# Altium integrated library Analog Devices Operational Amplifiers.IntLib: 2102 symbols (part 66 of 70)
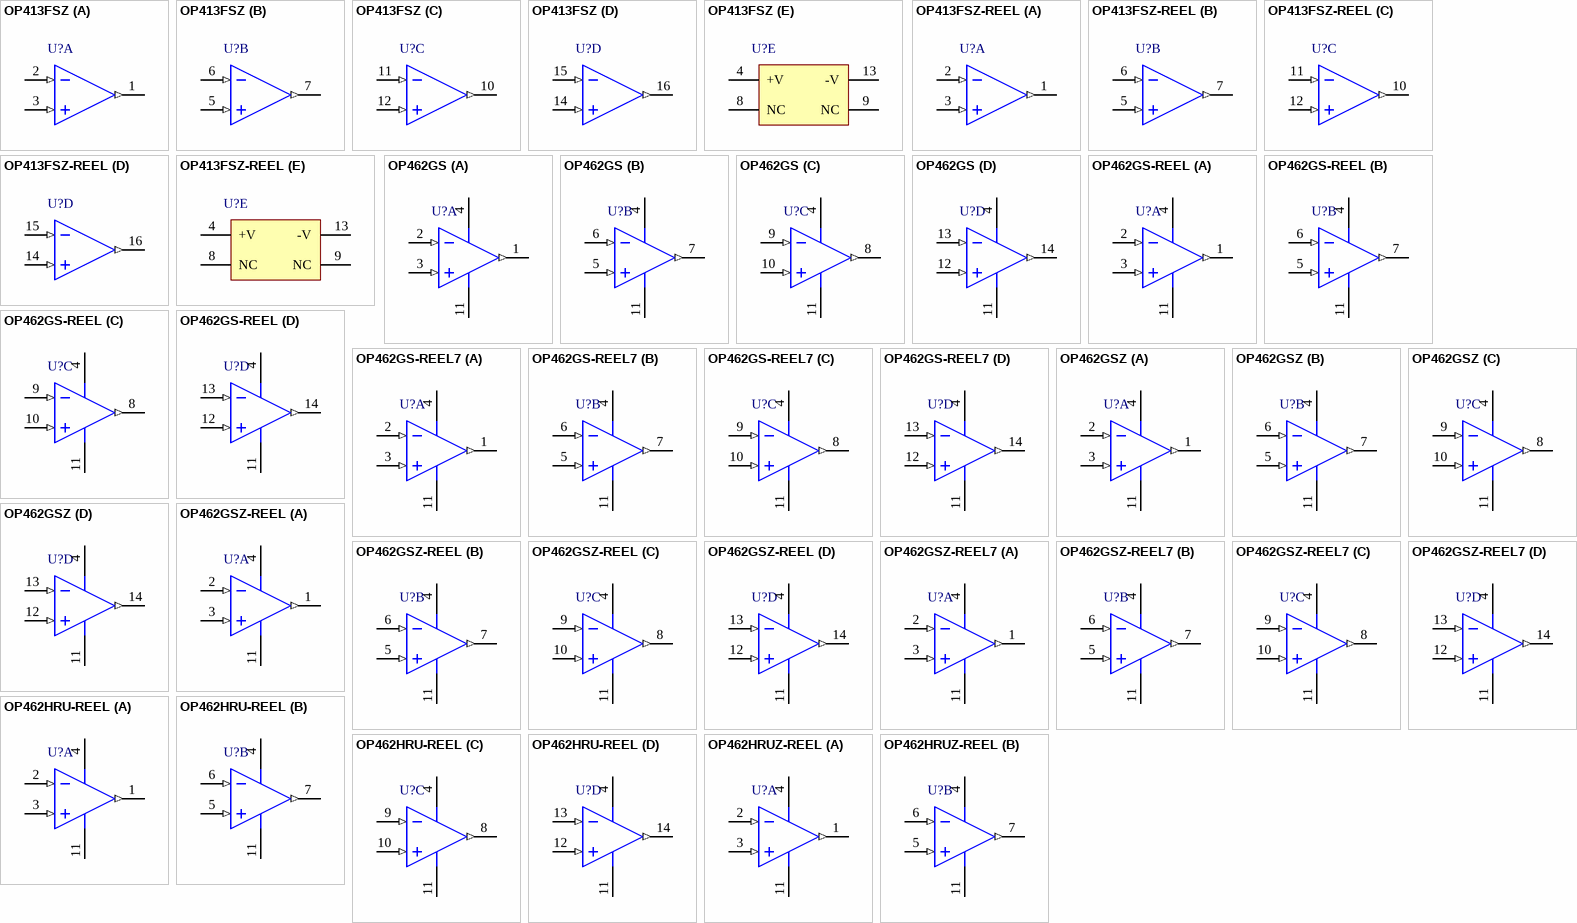
[diagram p179: symbols OP413FSZ to OP462HRUZ-REEL]

## OP462GS-REEL7
designator U?
Quad Channel Rail-to-Rail Operational Amplifier, 15 MHz BW, 13 V/us SR, Industrial, 14-pin SOIC (R-14), Reel; Generic Part Number: OP462; Manufacturer: Analog Devices; PartNumber: OP462GS-REEL7; Amplifiers Per Package: 4; Input Bias Current: 260nA; Input Offset Voltage: 25uV; Iq/Amp: 775uA; Slew Rate: 13V/us; Small Signal Bandwidth: 15MHz; V Span Max: 12V; V Span Min: 2.7V; DatasheetVersion: Rev. G; PackageVersion: 060606-A; PackageReference: R-14; PackageDescription: 14-Pin Standard Small Outline Package, Body 8.65 x 3.9 mm, Pitch 1.27 mm; Supplier 1: Digi-Key; Supplier Part Number 1: OP462GS-REEL7-ND; Mounting Technology: Surface Mount; Code_JEDEC: MS-012-AB; ComponentLink1Description: Manufacturer URL; ComponentLink1URL: http://www.analog.com/en/index.html; ComponentLink2Description: Datasheet; ComponentLink2URL: http://www.analog.com/static/imported-files/data_sheets/OP162_262_462.pdf; ComponentLink3Description: Package Specification; ComponentLink3URL: http://www.analog.com/static/imported-files/packages/PKG_PDF/SOIC_Narrow%20(R)/R_14.pdf
footprint ADI-R-14_N (SOIC, 14-Leads, Body 8.65x3.9mm, Pitch 1.27mm, IPC Medium Density)
footprint ADI-R-14_L (SOIC, 14-Leads, Body 8.65x3.9mm, Pitch 1.27mm, IPC High Density)
footprint ADI-R-14_M (SOIC, 14-Leads, Body 8.65x3.9mm, Pitch 1.27mm, IPC Low Density)
pins on every part: 4 +V (power), 11 -V (power)
part A pins: 1 OUT A (out), 2 -IN A (in), 3 +IN A (in)
part B pins: 5 +IN B (in), 6 -IN B (in), 7 OUT B (out)
part C pins: 8 OUT C (out), 9 -IN C (in), 10 +IN C (in)
part D pins: 12 +IN D (in), 13 -IN D (in), 14 OUT D (out)

## OP462GSZ
designator U?
Quad Channel Rail-to-Rail Operational Amplifier, 15 MHz BW, 13 V/us SR, Industrial, 14-pin SOIC (R-14), Tube; Generic Part Number: OP462; Manufacturer: Analog Devices; PartNumber: OP462GSZ; Amplifiers Per Package: 4; Input Bias Current: 260nA; Input Offset Voltage: 25uV; Iq/Amp: 775uA; Slew Rate: 13V/us; Small Signal Bandwidth: 15MHz; V Span Max: 12V; V Span Min: 2.7V; DatasheetVersion: Rev. G; PackageVersion: 060606-A; PackageReference: R-14; PackageDescription: 14-Pin Standard Small Outline Package, Body 8.65 x 3.9 mm, Pitch 1.27 mm; Supplier 1: Digi-Key; Supplier Part Number 1: OP462GSZ-ND; Supplier 2: Farnell; Supplier Part Number 2: 1661005; Supplier 3: Newark; Supplier Part Number 3: 19M8987; Mounting Technology: Surface Mount; Code_JEDEC: MS-012-AB; ComponentLink1Description: Manufacturer URL; ComponentLink1URL: http://www.analog.com/en/index.html; ComponentLink2Description: Datasheet; ComponentLink2URL: http://www.analog.com/static/imported-files/data_sheets/OP162_262_462.pdf; ComponentLink3Description: Package Specification; ComponentLink3URL: http://www.analog.com/static/imported-files/packages/PKG_PDF/SOIC_Narrow%20(R)/R_14.pdf
footprint ADI-R-14_N (SOIC, 14-Leads, Body 8.65x3.9mm, Pitch 1.27mm, IPC Medium Density)
footprint ADI-R-14_L (SOIC, 14-Leads, Body 8.65x3.9mm, Pitch 1.27mm, IPC High Density)
footprint ADI-R-14_M (SOIC, 14-Leads, Body 8.65x3.9mm, Pitch 1.27mm, IPC Low Density)
pins on every part: 4 +V (power), 11 -V (power)
part A pins: 1 OUT A (out), 2 -IN A (in), 3 +IN A (in)
part B pins: 5 +IN B (in), 6 -IN B (in), 7 OUT B (out)
part C pins: 8 OUT C (out), 9 -IN C (in), 10 +IN C (in)
part D pins: 12 +IN D (in), 13 -IN D (in), 14 OUT D (out)

## OP462GSZ-REEL
designator U?
Quad Channel Rail-to-Rail Operational Amplifier, 15 MHz BW, 13 V/us SR, Industrial, 14-pin SOIC (R-14), Reel; Generic Part Number: OP462; Manufacturer: Analog Devices; PartNumber: OP462GSZ-REEL; Amplifiers Per Package: 4; Input Bias Current: 260nA; Input Offset Voltage: 25uV; Iq/Amp: 775uA; Slew Rate: 13V/us; Small Signal Bandwidth: 15MHz; V Span Max: 12V; V Span Min: 2.7V; DatasheetVersion: Rev. G; PackageVersion: 060606-A; PackageReference: R-14; PackageDescription: 14-Pin Standard Small Outline Package, Body 8.65 x 3.9 mm, Pitch 1.27 mm; Supplier 1: Digi-Key; Supplier Part Number 1: OP462GSZ-REEL-ND; Mounting Technology: Surface Mount; Code_JEDEC: MS-012-AB; ComponentLink1Description: Manufacturer URL; ComponentLink1URL: http://www.analog.com/en/index.html; ComponentLink2Description: Datasheet; ComponentLink2URL: http://www.analog.com/static/imported-files/data_sheets/OP162_262_462.pdf; ComponentLink3Description: Package Specification; ComponentLink3URL: http://www.analog.com/static/imported-files/packages/PKG_PDF/SOIC_Narrow%20(R)/R_14.pdf
footprint ADI-R-14_N (SOIC, 14-Leads, Body 8.65x3.9mm, Pitch 1.27mm, IPC Medium Density)
footprint ADI-R-14_L (SOIC, 14-Leads, Body 8.65x3.9mm, Pitch 1.27mm, IPC High Density)
footprint ADI-R-14_M (SOIC, 14-Leads, Body 8.65x3.9mm, Pitch 1.27mm, IPC Low Density)
pins on every part: 4 +V (power), 11 -V (power)
part A pins: 1 OUT A (out), 2 -IN A (in), 3 +IN A (in)
part B pins: 5 +IN B (in), 6 -IN B (in), 7 OUT B (out)
part C pins: 8 OUT C (out), 9 -IN C (in), 10 +IN C (in)
part D pins: 12 +IN D (in), 13 -IN D (in), 14 OUT D (out)

## OP462GSZ-REEL7
designator U?
Quad Channel Rail-to-Rail Operational Amplifier, 15 MHz BW, 13 V/us SR, Industrial, 14-pin SOIC (R-14), Reel; Generic Part Number: OP462; Manufacturer: Analog Devices; PartNumber: OP462GSZ-REEL7; Amplifiers Per Package: 4; Input Bias Current: 260nA; Input Offset Voltage: 25uV; Iq/Amp: 775uA; Slew Rate: 13V/us; Small Signal Bandwidth: 15MHz; V Span Max: 12V; V Span Min: 2.7V; DatasheetVersion: Rev. G; PackageVersion: 060606-A; PackageReference: R-14; PackageDescription: 14-Pin Standard Small Outline Package, Body 8.65 x 3.9 mm, Pitch 1.27 mm; Supplier 1: Digi-Key; Supplier Part Number 1: OP462GSZ-REEL7TR-ND; Supplier 2: Digi-Key; Supplier Part Number 2: OP462GSZ-REEL7CT-ND; Supplier 3: Digi-Key; Supplier Part Number 3: OP462GSZ-REEL7DKR-ND; Mounting Technology: Surface Mount; Code_JEDEC: MS-012-AB; ComponentLink1Description: Manufacturer URL; ComponentLink1URL: http://www.analog.com/en/index.html; ComponentLink2Description: Datasheet; ComponentLink2URL: http://www.analog.com/static/imported-files/data_sheets/OP162_262_462.pdf; ComponentLink3Description: Package Specification; ComponentLink3URL: http://www.analog.com/static/imported-files/packages/PKG_PDF/SOIC_Narrow%20(R)/R_14.pdf
footprint ADI-R-14_N (SOIC, 14-Leads, Body 8.65x3.9mm, Pitch 1.27mm, IPC Medium Density)
footprint ADI-R-14_L (SOIC, 14-Leads, Body 8.65x3.9mm, Pitch 1.27mm, IPC High Density)
footprint ADI-R-14_M (SOIC, 14-Leads, Body 8.65x3.9mm, Pitch 1.27mm, IPC Low Density)
pins on every part: 4 +V (power), 11 -V (power)
part A pins: 1 OUT A (out), 2 -IN A (in), 3 +IN A (in)
part B pins: 5 +IN B (in), 6 -IN B (in), 7 OUT B (out)
part C pins: 8 OUT C (out), 9 -IN C (in), 10 +IN C (in)
part D pins: 12 +IN D (in), 13 -IN D (in), 14 OUT D (out)

## OP462HRU-REEL
designator U?
Quad Channel Rail-to-Rail Operational Amplifier, 15 MHz BW, 13 V/us SR, Industrial, 14-pin SOP (RU-14), Reel; Generic Part Number: OP462; Manufacturer: Analog Devices; PartNumber: OP462HRU-REEL; Amplifiers Per Package: 4; Input Bias Current: 260nA; Input Offset Voltage: 25uV; Iq/Amp: 775uA; Slew Rate: 13V/us; Small Signal Bandwidth: 15MHz; V Span Max: 12V; V Span Min: 2.7V; DatasheetVersion: Rev. G; PackageReference: RU-14; PackageDescription: 14-Pin Thin Shrink Small Outline Package, Body 5 x 4.4 mm, Pitch 0.65 mm; Supplier 1: Digi-Key; Supplier Part Number 1: OP462HRU-REEL-ND; Supplier 2: Newark; Supplier Part Number 2: 13B4653; Mounting Technology: Surface Mount; Code_JEDEC: MO-153AB-1; ComponentLink1Description: Manufacturer URL; ComponentLink1URL: http://www.analog.com/en/index.html; ComponentLink2Description: Datasheet; ComponentLink2URL: http://www.analog.com/static/imported-files/data_sheets/OP162_262_462.pdf; ComponentLink3Description: Package Specification; ComponentLink3URL: http://www.analog.com/static/imported-files/packages/36057385283879153717235186773RU14.pdf
footprint ADI-RU-14_N (SOP, 14-Leads, Body 5x4.4mm, Pitch 0.65mm, IPC Medium Density)
footprint ADI-RU-14_L (SOP, 14-Leads, Body 5x4.4mm, Pitch 0.65mm, IPC High Density)
footprint ADI-RU-14_M (SOP, 14-Leads, Body 5x4.4mm, Pitch 0.65mm, IPC Low Density)
pins on every part: 4 +V (power), 11 -V (power)
part A pins: 1 OUT A (out), 2 -IN A (in), 3 +IN A (in)
part B pins: 5 +IN B (in), 6 -IN B (in), 7 OUT B (out)
part C pins: 8 OUT C (out), 9 -IN C (in), 10 +IN C (in)
part D pins: 12 +IN D (in), 13 -IN D (in), 14 OUT D (out)

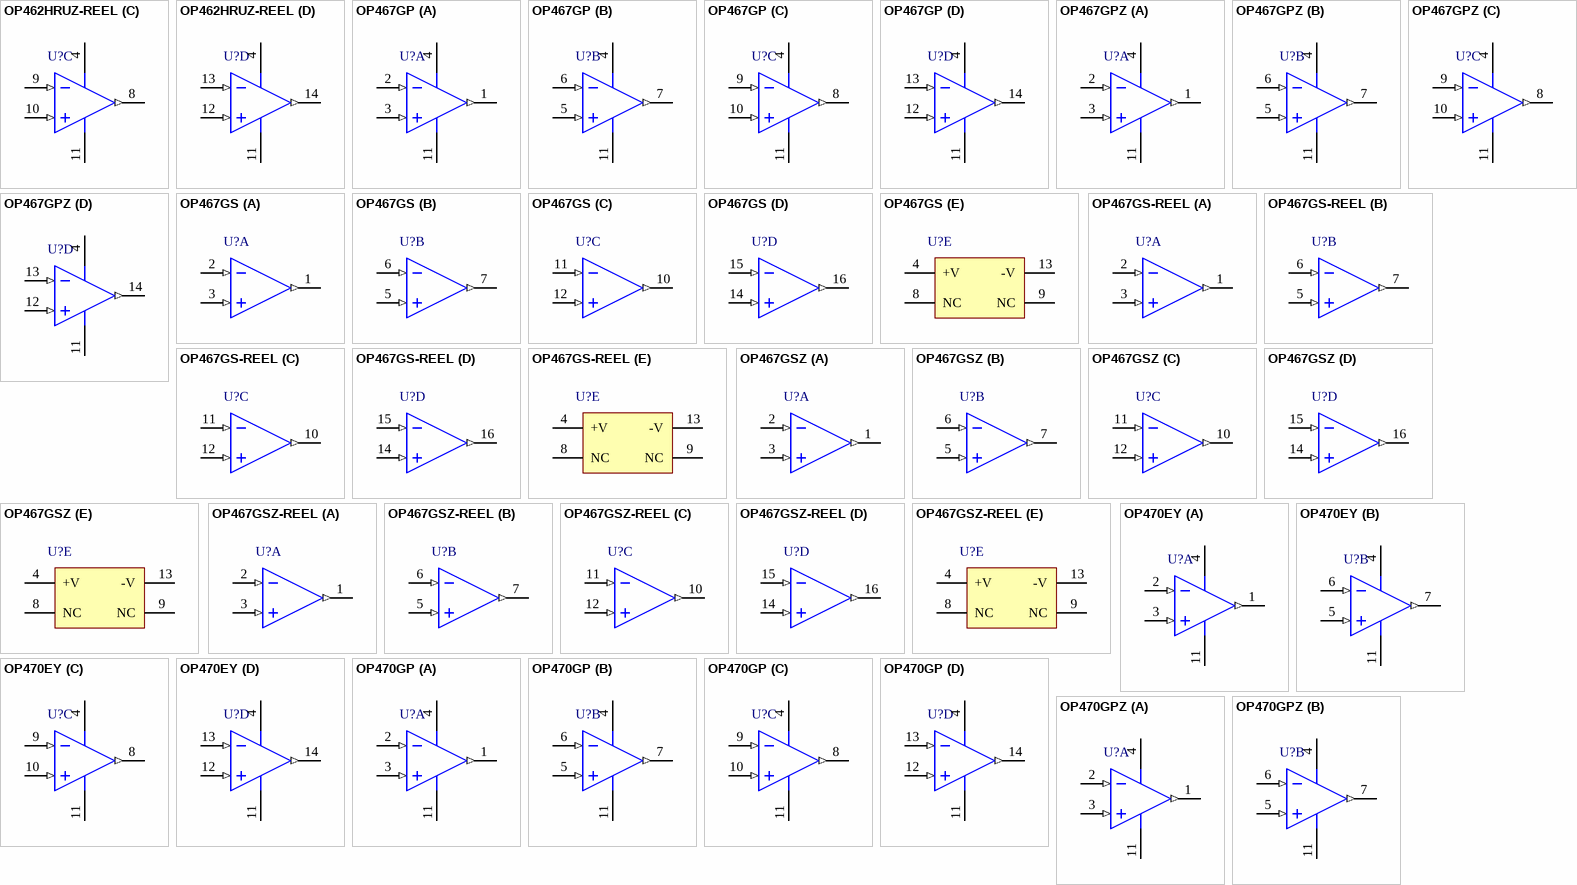
[diagram p103: symbols OP462HRUZ-REEL to OP470GPZ]

## OP462HRUZ-REEL
designator U?
Quad Channel Rail-to-Rail Operational Amplifier, 15 MHz BW, 13 V/us SR, Industrial, 14-pin SOP (RU-14), Reel; Generic Part Number: OP462; Manufacturer: Analog Devices; PartNumber: OP462HRUZ-REEL; Amplifiers Per Package: 4; Input Bias Current: 260nA; Input Offset Voltage: 25uV; Iq/Amp: 775uA; Slew Rate: 13V/us; Small Signal Bandwidth: 15MHz; V Span Max: 12V; V Span Min: 2.7V; DatasheetVersion: Rev. G; PackageReference: RU-14; PackageDescription: 14-Pin Thin Shrink Small Outline Package, Body 5 x 4.4 mm, Pitch 0.65 mm; Supplier 1: Digi-Key; Supplier Part Number 1: OP462HRUZ-REELTR-ND; Supplier 2: Digi-Key; Supplier Part Number 2: OP462HRUZ-REELCT-ND; Supplier 3: Digi-Key; Supplier Part Number 3: OP462HRUZ-REELDKR-ND; Supplier 4: Newark; Supplier Part Number 4: 67W2760; Supplier 5: Newark; Supplier Part Number 5: 59K8920; Mounting Technology: Surface Mount; Code_JEDEC: MO-153AB-1; ComponentLink1Description: Manufacturer URL; ComponentLink1URL: http://www.analog.com/en/index.html; ComponentLink2Description: Datasheet; ComponentLink2URL: http://www.analog.com/static/imported-files/data_sheets/OP162_262_462.pdf; ComponentLink3Description: Package Specification; ComponentLink3URL: http://www.analog.com/static/imported-files/packages/36057385283879153717235186773RU14.pdf
footprint ADI-RU-14_N (SOP, 14-Leads, Body 5x4.4mm, Pitch 0.65mm, IPC Medium Density)
footprint ADI-RU-14_L (SOP, 14-Leads, Body 5x4.4mm, Pitch 0.65mm, IPC High Density)
footprint ADI-RU-14_M (SOP, 14-Leads, Body 5x4.4mm, Pitch 0.65mm, IPC Low Density)
pins on every part: 4 +V (power), 11 -V (power)
part A pins: 1 OUT A (out), 2 -IN A (in), 3 +IN A (in)
part B pins: 5 +IN B (in), 6 -IN B (in), 7 OUT B (out)
part C pins: 8 OUT C (out), 9 -IN C (in), 10 +IN C (in)
part D pins: 12 +IN D (in), 13 -IN D (in), 14 OUT D (out)

## OP467GP
designator U?
Quad Channel Wide Bandwidth Operational Amplifier, 28 MHz BW, 170 V/us SR, 8-pin DIP (N-16), Tube; Generic Part Number: OP467; Manufacturer: Analog Devices; PartNumber: OP467GP; Amplifiers Per Package: 4; Input Bias Current: 150nA; Input Offset Voltage: 200uV; Iq/Amp: 2.5mA; Small Signal Bandwidth: 28MHz; V Span Max: 36V; V Span Min: 9V; DatasheetVersion: Rev. I; PackageVersion: 070606-A; PackageReference: N-14; PackageDescription: 14-Pin Plastic Dual In-Line Package, Row spacing 7.62 mm, Pitch 2.54 mm; Supplier 1: Digi-Key; Supplier Part Number 1: OP467GP-ND; Slew Rate: 170V/us; Mounting Technology: Through Hole; Code_JEDEC: MS-001; ComponentLink1Description: Manufacturer URL; ComponentLink1URL: http://www.analog.com/en/index.html; ComponentLink2Description: Datasheet; ComponentLink2URL: http://www.analog.com/static/imported-files/data_sheets/OP467.pdf; ComponentLink3Description: Package Specification; ComponentLink3URL: http://www.analog.com/static/imported-files/packages/N_14.pdf
footprint ADI-N-14 (DIP, 14-Leads, Body 19.18x6.605mm, Pitch 2.54mm)
pins on every part: 4 +V (power), 11 -V (power)
part A pins: 1 OUT A (out), 2 -IN A (in), 3 +IN A (in)
part B pins: 5 +IN B (in), 6 -IN B (in), 7 OUT B (out)
part C pins: 8 OUT C (out), 9 -IN C (in), 10 +IN C (in)
part D pins: 12 +IN D (in), 13 -IN D (in), 14 OUT D (out)

## OP467GPZ
designator U?
Quad Channel Wide Bandwidth Operational Amplifier, 28 MHz BW, 170 V/us SR, 8-pin DIP (N-16), Tube; Generic Part Number: OP467; Manufacturer: Analog Devices; PartNumber: OP467GPZ; Amplifiers Per Package: 4; Input Bias Current: 150nA; Input Offset Voltage: 200uV; Iq/Amp: 2.5mA; Small Signal Bandwidth: 28MHz; V Span Max: 36V; V Span Min: 9V; DatasheetVersion: Rev. I; PackageVersion: 070606-A; PackageReference: N-14; PackageDescription: 14-Pin Plastic Dual In-Line Package, Row spacing 7.62 mm, Pitch 2.54 mm; Supplier 1: Digi-Key; Supplier Part Number 1: OP467GPZ-ND; Supplier 2: Farnell; Supplier Part Number 2: 9605347; Supplier 3: Newark; Supplier Part Number 3: 59K8921; Slew Rate: 170V/us; Mounting Technology: Through Hole; Code_JEDEC: MS-001; ComponentLink1Description: Manufacturer URL; ComponentLink1URL: http://www.analog.com/en/index.html; ComponentLink2Description: Datasheet; ComponentLink2URL: http://www.analog.com/static/imported-files/data_sheets/OP467.pdf; ComponentLink3Description: Package Specification; ComponentLink3URL: http://www.analog.com/static/imported-files/packages/N_14.pdf
footprint ADI-N-14 (DIP, 14-Leads, Body 19.18x6.605mm, Pitch 2.54mm)
pins on every part: 4 +V (power), 11 -V (power)
part A pins: 1 OUT A (out), 2 -IN A (in), 3 +IN A (in)
part B pins: 5 +IN B (in), 6 -IN B (in), 7 OUT B (out)
part C pins: 8 OUT C (out), 9 -IN C (in), 10 +IN C (in)
part D pins: 12 +IN D (in), 13 -IN D (in), 14 OUT D (out)

## OP467GS
designator U?
Quad Channel Wide Bandwidth Operational Amplifier, 28 MHz BW, 170 V/us SR, 8-pin SOIC (RW-16), Tube; Generic Part Number: OP467; Manufacturer: Analog Devices; PartNumber: OP467GS; Amplifiers Per Package: 4; Input Bias Current: 150nA; Input Offset Voltage: 200uV; Iq/Amp: 2.5mA; Small Signal Bandwidth: 28MHz; V Span Max: 36V; V Span Min: 9V; DatasheetVersion: Rev. I; PackageVersion: 032707-B; PackageReference: RW-16; PackageDescription: 16-Pin Standard Small Outline Package, Body 10.3 x 7.5 mm, Pitch 1.27 mm; Supplier 1: Digi-Key; Supplier Part Number 1: OP467GS-ND; Slew Rate: 170V/us; Mounting Technology: Surface Mount; Code_JEDEC: MS-013-AA; ComponentLink1Description: Manufacturer URL; ComponentLink1URL: http://www.analog.com/en/index.html; ComponentLink2Description: Datasheet; ComponentLink2URL: http://www.analog.com/static/imported-files/data_sheets/OP467.pdf; ComponentLink3Description: Package Specification; ComponentLink3URL: http://www.analog.com/static/imported-files/packages/PKG_PDF/SOIC_WIDE%20%28RW%29/RW_16.pdf
footprint ADI-RW-16_N (SOIC, 16-Leads, Body 10.3x7.5mm, Pitch 1.27mm,IPC Medium Density)
footprint ADI-RW-16_L (SOIC, 16-Leads, Body 10.3x7.5mm, Pitch 1.27mm, IPC High Density)
footprint ADI-RW-16_M (SOIC, 16-Leads, Body 10.3x7.5mm, Pitch 1.27mm, IPC Low Density)
part A pins: 1 OUT A (out), 2 -IN A (in), 3 +IN A (in)
part B pins: 5 +IN B (in), 6 -IN B (in), 7 OUT B (out)
part C pins: 10 OUT C (out), 11 -IN C (in), 12 +IN C (in)
part D pins: 14 +IN D (in), 15 -IN D (in), 16 OUT D (out)
part E pins: 4 +V (power), 8 NC, 9 NC, 13 -V (power)

## OP467GS-REEL
designator U?
Quad Channel Wide Bandwidth Operational Amplifier, 28 MHz BW, 170 V/us SR, 8-pin SOIC (RW-16), Reel; Generic Part Number: OP467; Manufacturer: Analog Devices; PartNumber: OP467GS-REEL; Amplifiers Per Package: 4; Input Bias Current: 150nA; Input Offset Voltage: 200uV; Iq/Amp: 2.5mA; Small Signal Bandwidth: 28MHz; V Span Max: 36V; V Span Min: 9V; DatasheetVersion: Rev. I; PackageVersion: 032707-B; PackageReference: RW-16; PackageDescription: 16-Pin Standard Small Outline Package, Body 10.3 x 7.5 mm, Pitch 1.27 mm; Supplier 1: Digi-Key; Supplier Part Number 1: OP467GS-REEL-ND; Supplier 2: Newark; Supplier Part Number 2: 13B4656; Slew Rate: 170V/us; Mounting Technology: Surface Mount; Code_JEDEC: MS-013-AA; ComponentLink1Description: Manufacturer URL; ComponentLink1URL: http://www.analog.com/en/index.html; ComponentLink2Description: Datasheet; ComponentLink2URL: http://www.analog.com/static/imported-files/data_sheets/OP467.pdf; ComponentLink3Description: Package Specification; ComponentLink3URL: http://www.analog.com/static/imported-files/packages/PKG_PDF/SOIC_WIDE%20%28RW%29/RW_16.pdf
footprint ADI-RW-16_N (SOIC, 16-Leads, Body 10.3x7.5mm, Pitch 1.27mm,IPC Medium Density)
footprint ADI-RW-16_L (SOIC, 16-Leads, Body 10.3x7.5mm, Pitch 1.27mm, IPC High Density)
footprint ADI-RW-16_M (SOIC, 16-Leads, Body 10.3x7.5mm, Pitch 1.27mm, IPC Low Density)
part A pins: 1 OUT A (out), 2 -IN A (in), 3 +IN A (in)
part B pins: 5 +IN B (in), 6 -IN B (in), 7 OUT B (out)
part C pins: 10 OUT C (out), 11 -IN C (in), 12 +IN C (in)
part D pins: 14 +IN D (in), 15 -IN D (in), 16 OUT D (out)
part E pins: 4 +V (power), 8 NC, 9 NC, 13 -V (power)

## OP467GSZ
designator U?
Quad Channel Wide Bandwidth Operational Amplifier, 28 MHz BW, 170 V/us SR, 8-pin SOIC (RW-16), Tube; Generic Part Number: OP467; Manufacturer: Analog Devices; PartNumber: OP467GSZ; Amplifiers Per Package: 4; Input Bias Current: 150nA; Input Offset Voltage: 200uV; Iq/Amp: 2.5mA; Small Signal Bandwidth: 28MHz; V Span Max: 36V; V Span Min: 9V; DatasheetVersion: Rev. I; PackageVersion: 032707-B; PackageReference: RW-16; PackageDescription: 16-Pin Standard Small Outline Package, Body 10.3 x 7.5 mm, Pitch 1.27 mm; Supplier 1: Digi-Key; Supplier Part Number 1: OP467GSZ-ND; Supplier 2: Farnell; Supplier Part Number 2: 9605193; Supplier 3: Newark; Supplier Part Number 3: 19M1032; Slew Rate: 170V/us; Mounting Technology: Surface Mount; Code_JEDEC: MS-013-AA; ComponentLink1Description: Manufacturer URL; ComponentLink1URL: http://www.analog.com/en/index.html; ComponentLink2Description: Datasheet; ComponentLink2URL: http://www.analog.com/static/imported-files/data_sheets/OP467.pdf; ComponentLink3Description: Package Specification; ComponentLink3URL: http://www.analog.com/static/imported-files/packages/PKG_PDF/SOIC_WIDE%20%28RW%29/RW_16.pdf
footprint ADI-RW-16_N (SOIC, 16-Leads, Body 10.3x7.5mm, Pitch 1.27mm,IPC Medium Density)
footprint ADI-RW-16_L (SOIC, 16-Leads, Body 10.3x7.5mm, Pitch 1.27mm, IPC High Density)
footprint ADI-RW-16_M (SOIC, 16-Leads, Body 10.3x7.5mm, Pitch 1.27mm, IPC Low Density)
part A pins: 1 OUT A (out), 2 -IN A (in), 3 +IN A (in)
part B pins: 5 +IN B (in), 6 -IN B (in), 7 OUT B (out)
part C pins: 10 OUT C (out), 11 -IN C (in), 12 +IN C (in)
part D pins: 14 +IN D (in), 15 -IN D (in), 16 OUT D (out)
part E pins: 4 +V (power), 8 NC, 9 NC, 13 -V (power)

## OP467GSZ-REEL
designator U?
Quad Channel Wide Bandwidth Operational Amplifier, 28 MHz BW, 170 V/us SR, 8-pin SOIC (RW-16), Reel; Generic Part Number: OP467; Manufacturer: Analog Devices; PartNumber: OP467GSZ-REEL; Amplifiers Per Package: 4; Input Bias Current: 150nA; Input Offset Voltage: 200uV; Iq/Amp: 2.5mA; Small Signal Bandwidth: 28MHz; V Span Max: 36V; V Span Min: 9V; DatasheetVersion: Rev. I; PackageVersion: 032707-B; PackageReference: RW-16; PackageDescription: 16-Pin Standard Small Outline Package, Body 10.3 x 7.5 mm, Pitch 1.27 mm; Supplier 1: Digi-Key; Supplier Part Number 1: OP467GSZ-REELTR-ND; Supplier 2: Digi-Key; Supplier Part Number 2: OP467GSZ-REELCT-ND; Supplier 3: Digi-Key; Supplier Part Number 3: OP467GSZ-REELDKR-ND; Supplier 4: Newark; Supplier Part Number 4: 59K8923; Slew Rate: 170V/us; Mounting Technology: Surface Mount; Code_JEDEC: MS-013-AA; ComponentLink1Description: Manufacturer URL; ComponentLink1URL: http://www.analog.com/en/index.html; ComponentLink2Description: Datasheet; ComponentLink2URL: http://www.analog.com/static/imported-files/data_sheets/OP467.pdf; ComponentLink3Description: Package Specification; ComponentLink3URL: http://www.analog.com/static/imported-files/packages/PKG_PDF/SOIC_WIDE%20%28RW%29/RW_16.pdf
footprint ADI-RW-16_N (SOIC, 16-Leads, Body 10.3x7.5mm, Pitch 1.27mm,IPC Medium Density)
footprint ADI-RW-16_L (SOIC, 16-Leads, Body 10.3x7.5mm, Pitch 1.27mm, IPC High Density)
footprint ADI-RW-16_M (SOIC, 16-Leads, Body 10.3x7.5mm, Pitch 1.27mm, IPC Low Density)
part A pins: 1 OUT A (out), 2 -IN A (in), 3 +IN A (in)
part B pins: 5 +IN B (in), 6 -IN B (in), 7 OUT B (out)
part C pins: 10 OUT C (out), 11 -IN C (in), 12 +IN C (in)
part D pins: 14 +IN D (in), 15 -IN D (in), 16 OUT D (out)
part E pins: 4 +V (power), 8 NC, 9 NC, 13 -V (power)

## OP470EY
designator U?
Quad Channel Low Offset Voltage Drift Operational Amplifier, 6 MHz BW, 2 V/us SR, Industrial, 14-pin DIP (Q-14), Tube; Generic Part Number: OP470; Manufacturer: Analog Devices; PartNumber: OP470EY; Amplifiers Per Package: 4; Input Bias Current: 25nA; Input Offset Voltage: 400uV; Iq/Amp: 2.75mA; Slew Rate: 2V/us; Small Signal Bandwidth: 6MHz; V Span Max: 36V; V Span Min: 9V; DatasheetVersion: Rev. B; PackageReference: Q-14; PackageDescription: 14-Pin Ceramic Dual In-Line Package, Row spacing 7.62 mm, Pitch 2.54 mm; Supplier 1: Digi-Key; Supplier Part Number 1: OP470EY-ND; Supplier 2: Farnell; Supplier Part Number 2: 2241936; Supplier 3: Newark; Supplier Part Number 3: 05F8706; Packing: Tube; Mounting Technology: Through Hole; ComponentLink1Description: Manufacturer URL; ComponentLink1URL: http://www.analog.com/en/index.html; ComponentLink2Description: Datasheet; ComponentLink2URL: http://www.analog.com/static/imported-files/data_sheets/OP470.pdf; ComponentLink3Description: Package Specification; ComponentLink3URL: http://www.analog.com/static/imported-files/packages/393665681442905251546090Q_14.pdf
footprint ADI-Q-14 (DIP, 14-Leads, Body 19.94x6.73mm, Pitch 2.54mm)
pins on every part: 4 +V (power), 11 -V (power)
part A pins: 1 OUT A (out), 2 -IN A (in), 3 +IN A (in)
part B pins: 5 +IN B (in), 6 -IN B (in), 7 OUT B (out)
part C pins: 8 OUT C (out), 9 -IN C (in), 10 +IN C (in)
part D pins: 12 +IN D (in), 13 -IN D (in), 14 OUT D (out)

## OP470GP
designator U?
Quad Channel Low Offset Voltage Drift Operational Amplifier, 6 MHz BW, 2 V/us SR, Industrial, 14-pin DIP (N-14), Tube; Generic Part Number: OP470; Manufacturer: Analog Devices; PartNumber: OP470GP; Amplifiers Per Package: 4; Input Bias Current: 25nA; Input Offset Voltage: 400uV; Iq/Amp: 2.75mA; Slew Rate: 2V/us; Small Signal Bandwidth: 6MHz; V Span Max: 36V; V Span Min: 9V; DatasheetVersion: Rev. B; PackageVersion: 070606-A; PackageReference: N-14; PackageDescription: 14-Pin Plastic Dual In-Line Package, Row spacing 7.62 mm, Pitch 2.54 mm; Supplier 1: Digi-Key; Supplier Part Number 1: OP470GP-ND; Supplier 2: Newark; Supplier Part Number 2: 05F8708; Packing: Tube; Mounting Technology: Through Hole; Code_JEDEC: MS-001; ComponentLink1Description: Manufacturer URL; ComponentLink1URL: http://www.analog.com/en/index.html; ComponentLink2Description: Datasheet; ComponentLink2URL: http://www.analog.com/static/imported-files/data_sheets/OP470.pdf; ComponentLink3Description: Package Specification; ComponentLink3URL: http://www.analog.com/static/imported-files/packages/N_14.pdf
footprint ADI-N-14 (DIP, 14-Leads, Body 19.18x6.605mm, Pitch 2.54mm)
pins on every part: 4 +V (power), 11 -V (power)
part A pins: 1 OUT A (out), 2 -IN A (in), 3 +IN A (in)
part B pins: 5 +IN B (in), 6 -IN B (in), 7 OUT B (out)
part C pins: 8 OUT C (out), 9 -IN C (in), 10 +IN C (in)
part D pins: 12 +IN D (in), 13 -IN D (in), 14 OUT D (out)

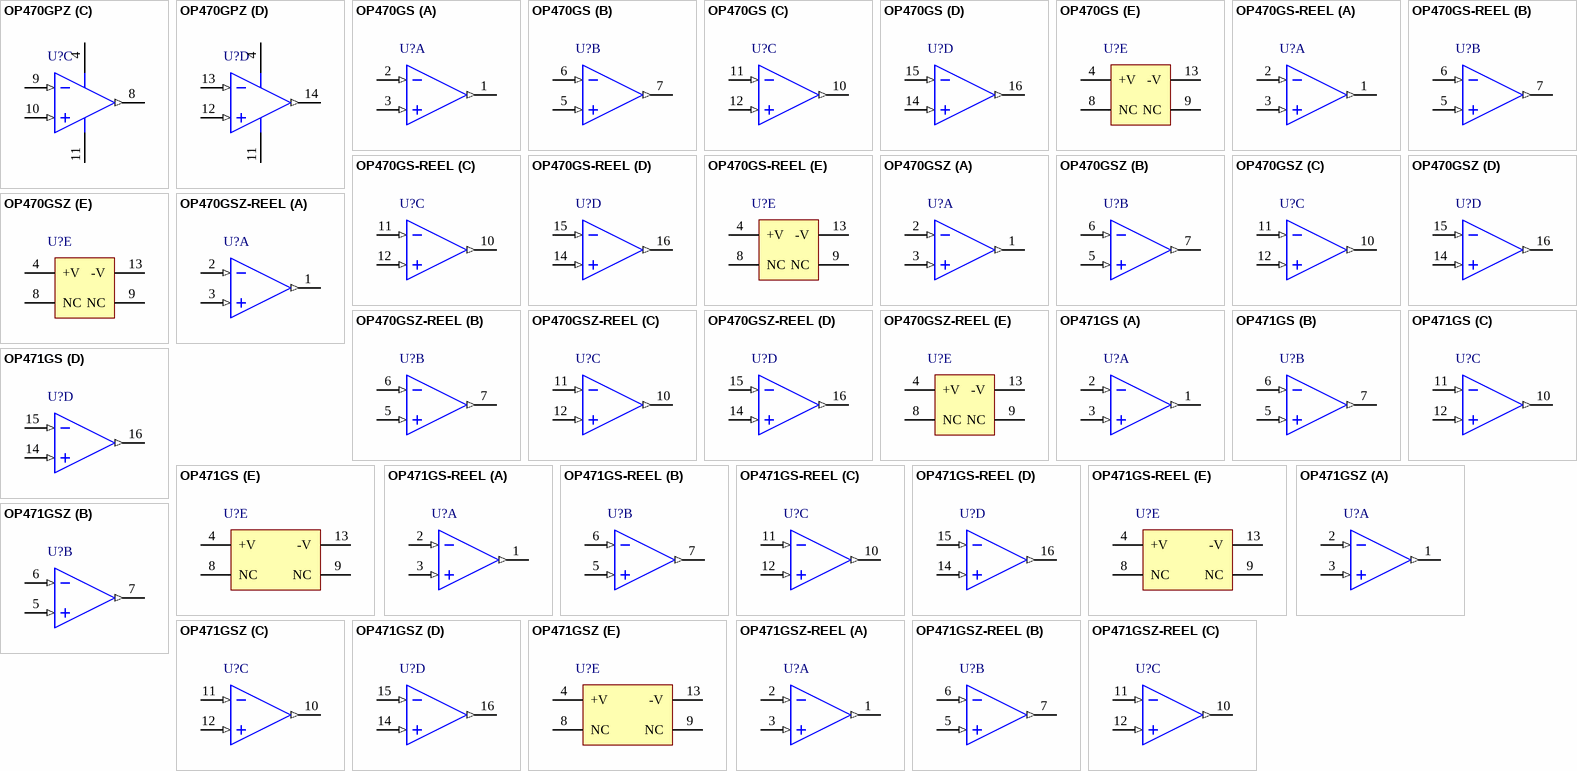
[diagram p104: symbols OP470GPZ to OP471GSZ-REEL]

## OP470GPZ
designator U?
Quad Channel Low Offset Voltage Drift Operational Amplifier, 6 MHz BW, 2 V/us SR, Industrial, 14-pin DIP (N-14), Tube; Generic Part Number: OP470; Manufacturer: Analog Devices; PartNumber: OP470GPZ; Amplifiers Per Package: 4; Input Bias Current: 25nA; Input Offset Voltage: 400uV; Iq/Amp: 2.75mA; Slew Rate: 2V/us; Small Signal Bandwidth: 6MHz; V Span Max: 36V; V Span Min: 9V; DatasheetVersion: Rev. B; PackageVersion: 070606-A; PackageReference: N-14; PackageDescription: 14-Pin Plastic Dual In-Line Package, Row spacing 7.62 mm, Pitch 2.54 mm; Supplier 1: Digi-Key; Supplier Part Number 1: OP470GPZ-ND; Supplier 2: Farnell; Supplier Part Number 2: 9604790; Supplier 3: Newark; Supplier Part Number 3: 59K8924; Packing: Tube; Mounting Technology: Through Hole; Code_JEDEC: MS-001; ComponentLink1Description: Manufacturer URL; ComponentLink1URL: http://www.analog.com/en/index.html; ComponentLink2Description: Datasheet; ComponentLink2URL: http://www.analog.com/static/imported-files/data_sheets/OP470.pdf; ComponentLink3Description: Package Specification; ComponentLink3URL: http://www.analog.com/static/imported-files/packages/N_14.pdf
footprint ADI-N-14 (DIP, 14-Leads, Body 19.18x6.605mm, Pitch 2.54mm)
pins on every part: 4 +V (power), 11 -V (power)
part A pins: 1 OUT A (out), 2 -IN A (in), 3 +IN A (in)
part B pins: 5 +IN B (in), 6 -IN B (in), 7 OUT B (out)
part C pins: 8 OUT C (out), 9 -IN C (in), 10 +IN C (in)
part D pins: 12 +IN D (in), 13 -IN D (in), 14 OUT D (out)

## OP470GS
designator U?
Quad Channel Low Offset Voltage Drift Operational Amplifier, 6 MHz BW, 2 V/us SR, Industrial, 16-pin SOIC (RW-16), Tube; Generic Part Number: OP470; Manufacturer: Analog Devices; PartNumber: OP470GS; Amplifiers Per Package: 4; Input Bias Current: 25nA; Input Offset Voltage: 400uV; Iq/Amp: 2.75mA; Slew Rate: 2V/us; Small Signal Bandwidth: 6MHz; V Span Max: 36V; V Span Min: 9V; DatasheetVersion: Rev. B; PackageVersion: 032707-B; PackageReference: RW-16; PackageDescription: 16-Pin Standard Small Outline Package, Body 10.3 x 7.5 mm, Pitch 1.27 mm; Supplier 1: Digi-Key; Supplier Part Number 1: OP470GS-ND; Packing: Tube; Mounting Technology: Surface Mount; Code_JEDEC: MS-013-AA; ComponentLink1Description: Manufacturer URL; ComponentLink1URL: http://www.analog.com/en/index.html; ComponentLink2Description: Datasheet; ComponentLink2URL: http://www.analog.com/static/imported-files/data_sheets/OP470.pdf; ComponentLink3Description: Package Specification; ComponentLink3URL: http://www.analog.com/static/imported-files/packages/PKG_PDF/SOIC_WIDE%20%28RW%29/RW_16.pdf
footprint ADI-RW-16_N (SOIC, 16-Leads, Body 10.3x7.5mm, Pitch 1.27mm,IPC Medium Density)
footprint ADI-RW-16_L (SOIC, 16-Leads, Body 10.3x7.5mm, Pitch 1.27mm, IPC High Density)
footprint ADI-RW-16_M (SOIC, 16-Leads, Body 10.3x7.5mm, Pitch 1.27mm, IPC Low Density)
part A pins: 1 OUT A (out), 2 -IN A (in), 3 +IN A (in)
part B pins: 5 +IN B (in), 6 -IN B (in), 7 OUT B (out)
part C pins: 10 OUT C (out), 11 -IN C (in), 12 +IN C (in)
part D pins: 14 +IN D (in), 15 -IN D (in), 16 OUT D (out)
part E pins: 4 +V (power), 8 NC, 9 NC, 13 -V (power)

## OP470GS-REEL
designator U?
Quad Channel Low Offset Voltage Drift Operational Amplifier, 6 MHz BW, 2 V/us SR, Industrial, 16-pin SOIC (RW-16), Reel; Generic Part Number: OP470; Manufacturer: Analog Devices; PartNumber: OP470GS-REEL; Amplifiers Per Package: 4; Input Bias Current: 25nA; Input Offset Voltage: 400uV; Iq/Amp: 2.75mA; Slew Rate: 2V/us; Small Signal Bandwidth: 6MHz; V Span Max: 36V; V Span Min: 9V; DatasheetVersion: Rev. B; PackageVersion: 032707-B; PackageReference: RW-16; PackageDescription: 16-Pin Standard Small Outline Package, Body 10.3 x 7.5 mm, Pitch 1.27 mm; Supplier 1: Digi-Key; Supplier Part Number 1: OP470GS-REEL-ND; Supplier 2: Newark; Supplier Part Number 2: 13B4659; Packing: Reel; Mounting Technology: Surface Mount; Code_JEDEC: MS-013-AA; ComponentLink1Description: Manufacturer URL; ComponentLink1URL: http://www.analog.com/en/index.html; ComponentLink2Description: Datasheet; ComponentLink2URL: http://www.analog.com/static/imported-files/data_sheets/OP470.pdf; ComponentLink3Description: Package Specification; ComponentLink3URL: http://www.analog.com/static/imported-files/packages/PKG_PDF/SOIC_WIDE%20%28RW%29/RW_16.pdf
footprint ADI-RW-16_N (SOIC, 16-Leads, Body 10.3x7.5mm, Pitch 1.27mm,IPC Medium Density)
footprint ADI-RW-16_L (SOIC, 16-Leads, Body 10.3x7.5mm, Pitch 1.27mm, IPC High Density)
footprint ADI-RW-16_M (SOIC, 16-Leads, Body 10.3x7.5mm, Pitch 1.27mm, IPC Low Density)
part A pins: 1 OUT A (out), 2 -IN A (in), 3 +IN A (in)
part B pins: 5 +IN B (in), 6 -IN B (in), 7 OUT B (out)
part C pins: 10 OUT C (out), 11 -IN C (in), 12 +IN C (in)
part D pins: 14 +IN D (in), 15 -IN D (in), 16 OUT D (out)
part E pins: 4 +V (power), 8 NC, 9 NC, 13 -V (power)

## OP470GSZ
designator U?
Quad Channel Low Offset Voltage Drift Operational Amplifier, 6 MHz BW, 2 V/us SR, Industrial, 16-pin SOIC (RW-16), Tube; Generic Part Number: OP470; Manufacturer: Analog Devices; PartNumber: OP470GSZ; Amplifiers Per Package: 4; Input Bias Current: 25nA; Input Offset Voltage: 400uV; Iq/Amp: 2.75mA; Slew Rate: 2V/us; Small Signal Bandwidth: 6MHz; V Span Max: 36V; V Span Min: 9V; DatasheetVersion: Rev. B; PackageVersion: 032707-B; PackageReference: RW-16; PackageDescription: 16-Pin Standard Small Outline Package, Body 10.3 x 7.5 mm, Pitch 1.27 mm; Supplier 1: Digi-Key; Supplier Part Number 1: OP470GSZ-ND; Supplier 2: Farnell; Supplier Part Number 2: 9426302; Supplier 3: Newark; Supplier Part Number 3: 19M1033; Packing: Tube; Mounting Technology: Surface Mount; Code_JEDEC: MS-013-AA; ComponentLink1Description: Manufacturer URL; ComponentLink1URL: http://www.analog.com/en/index.html; ComponentLink2Description: Datasheet; ComponentLink2URL: http://www.analog.com/static/imported-files/data_sheets/OP470.pdf; ComponentLink3Description: Package Specification; ComponentLink3URL: http://www.analog.com/static/imported-files/packages/PKG_PDF/SOIC_WIDE%20%28RW%29/RW_16.pdf
footprint ADI-RW-16_N (SOIC, 16-Leads, Body 10.3x7.5mm, Pitch 1.27mm,IPC Medium Density)
footprint ADI-RW-16_L (SOIC, 16-Leads, Body 10.3x7.5mm, Pitch 1.27mm, IPC High Density)
footprint ADI-RW-16_M (SOIC, 16-Leads, Body 10.3x7.5mm, Pitch 1.27mm, IPC Low Density)
part A pins: 1 OUT A (out), 2 -IN A (in), 3 +IN A (in)
part B pins: 5 +IN B (in), 6 -IN B (in), 7 OUT B (out)
part C pins: 10 OUT C (out), 11 -IN C (in), 12 +IN C (in)
part D pins: 14 +IN D (in), 15 -IN D (in), 16 OUT D (out)
part E pins: 4 +V (power), 8 NC, 9 NC, 13 -V (power)

## OP470GSZ-REEL
designator U?
Quad Channel Low Offset Voltage Drift Operational Amplifier, 6 MHz BW, 2 V/us SR, Industrial, 16-pin SOIC (RW-16), Reel; Generic Part Number: OP470; Manufacturer: Analog Devices; PartNumber: OP470GSZ-REEL; Amplifiers Per Package: 4; Input Bias Current: 25nA; Input Offset Voltage: 400uV; Iq/Amp: 2.75mA; Slew Rate: 2V/us; Small Signal Bandwidth: 6MHz; V Span Max: 36V; V Span Min: 9V; DatasheetVersion: Rev. B; PackageVersion: 032707-B; PackageReference: RW-16; PackageDescription: 16-Pin Standard Small Outline Package, Body 10.3 x 7.5 mm, Pitch 1.27 mm; Supplier 1: Digi-Key; Supplier Part Number 1: OP470GSZ-REEL-ND; Supplier 2: Newark; Supplier Part Number 2: 59K8926; Packing: Reel; Mounting Technology: Surface Mount; Code_JEDEC: MS-013-AA; ComponentLink1Description: Manufacturer URL; ComponentLink1URL: http://www.analog.com/en/index.html; ComponentLink2Description: Datasheet; ComponentLink2URL: http://www.analog.com/static/imported-files/data_sheets/OP470.pdf; ComponentLink3Description: Package Specification; ComponentLink3URL: http://www.analog.com/static/imported-files/packages/PKG_PDF/SOIC_WIDE%20%28RW%29/RW_16.pdf
footprint ADI-RW-16_N (SOIC, 16-Leads, Body 10.3x7.5mm, Pitch 1.27mm,IPC Medium Density)
footprint ADI-RW-16_L (SOIC, 16-Leads, Body 10.3x7.5mm, Pitch 1.27mm, IPC High Density)
footprint ADI-RW-16_M (SOIC, 16-Leads, Body 10.3x7.5mm, Pitch 1.27mm, IPC Low Density)
part A pins: 1 OUT A (out), 2 -IN A (in), 3 +IN A (in)
part B pins: 5 +IN B (in), 6 -IN B (in), 7 OUT B (out)
part C pins: 10 OUT C (out), 11 -IN C (in), 12 +IN C (in)
part D pins: 14 +IN D (in), 15 -IN D (in), 16 OUT D (out)
part E pins: 4 +V (power), 8 NC, 9 NC, 13 -V (power)

## OP471GS
designator U?
Quad Channel Low Offset Voltage Drift Operational Amplifier, 6.5 MHz BW, 8 V/us SR, Industrial, 16-pin SOIC (RW-16), Tube; Generic Part Number: OP471; Manufacturer: Analog Devices; PartNumber: OP471GS; Amplifiers Per Package: 4; Input Bias Current: 25nA; Input Offset Voltage: 1mV; Iq/Amp: 2.75mA; Slew Rate: 8V/us; Small Signal Bandwidth: 6.5MHz; V Span Max: 36V; V Span Min: 9V; DatasheetVersion: Rev. A; PackageVersion: 032707-B; PackageReference: RW-16; PackageDescription: 16-Pin Standard Small Outline Package, Body 10.3 x 7.5 mm, Pitch 1.27 mm; Supplier 1: Digi-Key; Supplier Part Number 1: OP471GS-ND; Packing: Tube; Mounting Technology: Surface Mount; Code_JEDEC: MS-013-AA; ComponentLink1Description: Manufacturer URL; ComponentLink1URL: http://www.analog.com/en/index.html; ComponentLink2Description: Datasheet; ComponentLink2URL: http://www.analog.com/static/imported-files/data_sheets/OP471.pdf; ComponentLink3Description: Package Specification; ComponentLink3URL: http://www.analog.com/static/imported-files/packages/PKG_PDF/SOIC_WIDE%20%28RW%29/RW_16.pdf
footprint ADI-RW-16_N (SOIC, 16-Leads, Body 10.3x7.5mm, Pitch 1.27mm,IPC Medium Density)
footprint ADI-RW-16_L (SOIC, 16-Leads, Body 10.3x7.5mm, Pitch 1.27mm, IPC High Density)
footprint ADI-RW-16_M (SOIC, 16-Leads, Body 10.3x7.5mm, Pitch 1.27mm, IPC Low Density)
part A pins: 1 OUT A (out), 2 -IN A (in), 3 +IN A (in)
part B pins: 5 +IN B (in), 6 -IN B (in), 7 OUT B (out)
part C pins: 10 OUT C (out), 11 -IN C (in), 12 +IN C (in)
part D pins: 14 +IN D (in), 15 -IN D (in), 16 OUT D (out)
part E pins: 4 +V (power), 8 NC, 9 NC, 13 -V (power)

## OP471GS-REEL
designator U?
Quad Channel Low Offset Voltage Drift Operational Amplifier, 6.5 MHz BW, 8 V/us SR, Industrial, 16-pin SOIC (RW-16), Reel; Generic Part Number: OP471; Manufacturer: Analog Devices; PartNumber: OP471GS-REEL; Amplifiers Per Package: 4; Input Bias Current: 25nA; Input Offset Voltage: 1mV; Iq/Amp: 2.75mA; Slew Rate: 8V/us; Small Signal Bandwidth: 6.5MHz; V Span Max: 36V; V Span Min: 9V; DatasheetVersion: Rev. A; PackageVersion: 032707-B; PackageReference: RW-16; PackageDescription: 16-Pin Standard Small Outline Package, Body 10.3 x 7.5 mm, Pitch 1.27 mm; Supplier 1: Digi-Key; Supplier Part Number 1: OP471GS-REEL-ND; Supplier 2: Newark; Supplier Part Number 2: 13B4662; Packing: Reel; Mounting Technology: Surface Mount; Code_JEDEC: MS-013-AA; ComponentLink1Description: Manufacturer URL; ComponentLink1URL: http://www.analog.com/en/index.html; ComponentLink2Description: Datasheet; ComponentLink2URL: http://www.analog.com/static/imported-files/data_sheets/OP471.pdf; ComponentLink3Description: Package Specification; ComponentLink3URL: http://www.analog.com/static/imported-files/packages/PKG_PDF/SOIC_WIDE%20%28RW%29/RW_16.pdf
footprint ADI-RW-16_N (SOIC, 16-Leads, Body 10.3x7.5mm, Pitch 1.27mm,IPC Medium Density)
footprint ADI-RW-16_L (SOIC, 16-Leads, Body 10.3x7.5mm, Pitch 1.27mm, IPC High Density)
footprint ADI-RW-16_M (SOIC, 16-Leads, Body 10.3x7.5mm, Pitch 1.27mm, IPC Low Density)
part A pins: 1 OUT A (out), 2 -IN A (in), 3 +IN A (in)
part B pins: 5 +IN B (in), 6 -IN B (in), 7 OUT B (out)
part C pins: 10 OUT C (out), 11 -IN C (in), 12 +IN C (in)
part D pins: 14 +IN D (in), 15 -IN D (in), 16 OUT D (out)
part E pins: 4 +V (power), 8 NC, 9 NC, 13 -V (power)

## OP471GSZ
designator U?
Quad Channel Low Offset Voltage Drift Operational Amplifier, 6.5 MHz BW, 8 V/us SR, Industrial, 16-pin SOIC (RW-16), Tube; Generic Part Number: OP471; Manufacturer: Analog Devices; PartNumber: OP471GSZ; Amplifiers Per Package: 4; Input Bias Current: 25nA; Input Offset Voltage: 1mV; Iq/Amp: 2.75mA; Slew Rate: 8V/us; Small Signal Bandwidth: 6.5MHz; V Span Max: 36V; V Span Min: 9V; DatasheetVersion: Rev. A; PackageVersion: 032707-B; PackageReference: RW-16; PackageDescription: 16-Pin Standard Small Outline Package, Body 10.3 x 7.5 mm, Pitch 1.27 mm; Supplier 1: Digi-Key; Supplier Part Number 1: OP471GSZ-ND; Supplier 2: Newark; Supplier Part Number 2: 59K8929; Packing: Tube; Mounting Technology: Surface Mount; Code_JEDEC: MS-013-AA; ComponentLink1Description: Manufacturer URL; ComponentLink1URL: http://www.analog.com/en/index.html; ComponentLink2Description: Datasheet; ComponentLink2URL: http://www.analog.com/static/imported-files/data_sheets/OP471.pdf; ComponentLink3Description: Package Specification; ComponentLink3URL: http://www.analog.com/static/imported-files/packages/PKG_PDF/SOIC_WIDE%20%28RW%29/RW_16.pdf
footprint ADI-RW-16_N (SOIC, 16-Leads, Body 10.3x7.5mm, Pitch 1.27mm,IPC Medium Density)
footprint ADI-RW-16_L (SOIC, 16-Leads, Body 10.3x7.5mm, Pitch 1.27mm, IPC High Density)
footprint ADI-RW-16_M (SOIC, 16-Leads, Body 10.3x7.5mm, Pitch 1.27mm, IPC Low Density)
part A pins: 1 OUT A (out), 2 -IN A (in), 3 +IN A (in)
part B pins: 5 +IN B (in), 6 -IN B (in), 7 OUT B (out)
part C pins: 10 OUT C (out), 11 -IN C (in), 12 +IN C (in)
part D pins: 14 +IN D (in), 15 -IN D (in), 16 OUT D (out)
part E pins: 4 +V (power), 8 NC, 9 NC, 13 -V (power)

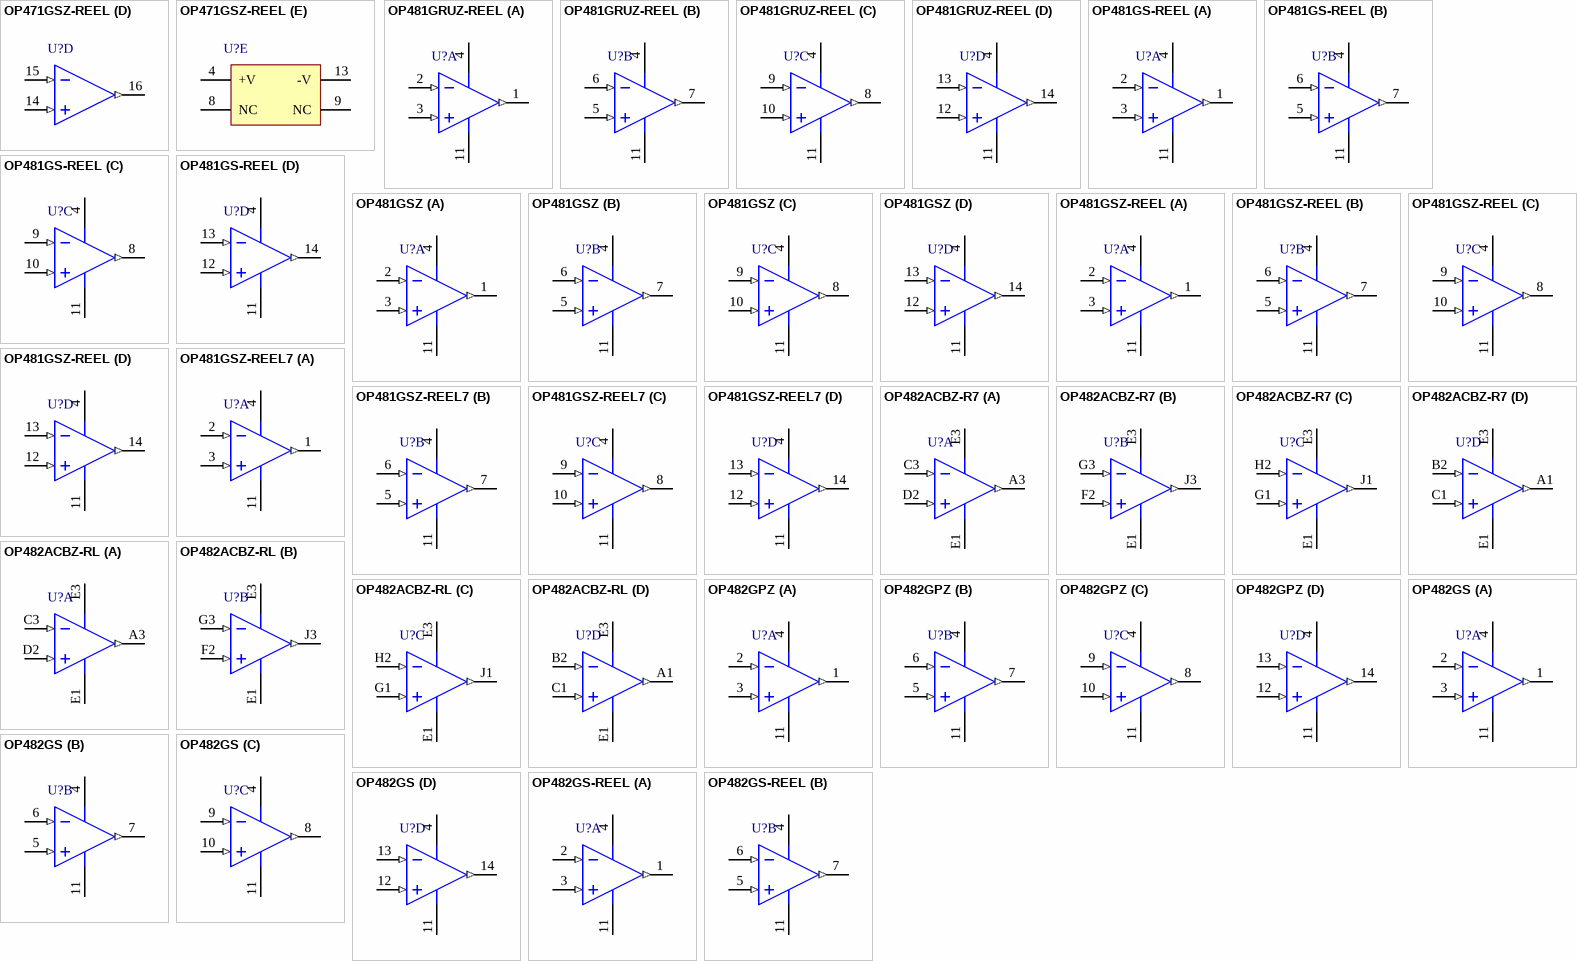
[diagram p105: symbols OP471GSZ-REEL to OP482GS-REEL]

## OP471GSZ-REEL
designator U?
Quad Channel Low Offset Voltage Drift Operational Amplifier, 6.5 MHz BW, 8 V/us SR, Industrial, 16-pin SOIC (RW-16), Reel; Generic Part Number: OP471; Manufacturer: Analog Devices; PartNumber: OP471GSZ-REEL; Amplifiers Per Package: 4; Input Bias Current: 25nA; Input Offset Voltage: 1mV; Iq/Amp: 2.75mA; Slew Rate: 8V/us; Small Signal Bandwidth: 6.5MHz; V Span Max: 36V; V Span Min: 9V; DatasheetVersion: Rev. A; PackageVersion: 032707-B; PackageReference: RW-16; PackageDescription: 16-Pin Standard Small Outline Package, Body 10.3 x 7.5 mm, Pitch 1.27 mm; Supplier 1: Digi-Key; Supplier Part Number 1: OP471GSZ-REEL-ND; Packing: Reel; Mounting Technology: Surface Mount; Code_JEDEC: MS-013-AA; ComponentLink1Description: Manufacturer URL; ComponentLink1URL: http://www.analog.com/en/index.html; ComponentLink2Description: Datasheet; ComponentLink2URL: http://www.analog.com/static/imported-files/data_sheets/OP471.pdf; ComponentLink3Description: Package Specification; ComponentLink3URL: http://www.analog.com/static/imported-files/packages/PKG_PDF/SOIC_WIDE%20%28RW%29/RW_16.pdf
footprint ADI-RW-16_N (SOIC, 16-Leads, Body 10.3x7.5mm, Pitch 1.27mm,IPC Medium Density)
footprint ADI-RW-16_L (SOIC, 16-Leads, Body 10.3x7.5mm, Pitch 1.27mm, IPC High Density)
footprint ADI-RW-16_M (SOIC, 16-Leads, Body 10.3x7.5mm, Pitch 1.27mm, IPC Low Density)
part A pins: 1 OUT A (out), 2 -IN A (in), 3 +IN A (in)
part B pins: 5 +IN B (in), 6 -IN B (in), 7 OUT B (out)
part C pins: 10 OUT C (out), 11 -IN C (in), 12 +IN C (in)
part D pins: 14 +IN D (in), 15 -IN D (in), 16 OUT D (out)
part E pins: 4 +V (power), 8 NC, 9 NC, 13 -V (power)

## OP481GRUZ-REEL
designator U?
Quad Channel Operational Amplifier, 105 KHz BW, 28 mV/us SR, Industrial, 14-pin SOP (RU-14), Reel; Generic Part Number: OP481; Manufacturer: Analog Devices; PartNumber: OP481GRUZ-REEL; Amplifiers Per Package: 4; Input Bias Current: 3nA; Input Offset Voltage: 100uV; Iq/Amp: 5uA; Small Signal Bandwidth: 105KHz; V Span Max: 12V; V Span Min: 2.7V; DatasheetVersion: Rev. D; PackageReference: RU-14; PackageDescription: 14-Pin Thin Shrink Small Outline Package, Body 5 x 4.4 mm, Pitch 0.65 mm; Supplier 1: Digi-Key; Supplier Part Number 1: OP481GRUZ-REELTR-ND; Supplier 2: Digi-Key; Supplier Part Number 2: OP481GRUZ-REELCT-ND; Supplier 3: Digi-Key; Supplier Part Number 3: OP481GRUZ-REELDKR-ND; Supplier 4: Newark; Supplier Part Number 4: 59K8931; Packing: Reel; Slew Rate: 28mV/us; Mounting Technology: Surface Mount; Code_JEDEC: MO-153AB-1; ComponentLink1Description: Manufacturer URL; ComponentLink1URL: http://www.analog.com/en/index.html; ComponentLink2Description: Datasheet; ComponentLink2URL: http://www.analog.com/static/imported-files/data_sheets/OP281_OP481.pdf; ComponentLink3Description: Package Specification; ComponentLink3URL: http://www.analog.com/static/imported-files/packages/36057385283879153717235186773RU14.pdf
footprint ADI-RU-14_N (SOP, 14-Leads, Body 5x4.4mm, Pitch 0.65mm, IPC Medium Density)
footprint ADI-RU-14_L (SOP, 14-Leads, Body 5x4.4mm, Pitch 0.65mm, IPC High Density)
footprint ADI-RU-14_M (SOP, 14-Leads, Body 5x4.4mm, Pitch 0.65mm, IPC Low Density)
pins on every part: 4 +V (power), 11 -V (power)
part A pins: 1 OUT A (out), 2 -IN A (in), 3 +IN A (in)
part B pins: 5 +IN B (in), 6 -IN B (in), 7 OUT B (out)
part C pins: 8 OUT C (out), 9 -IN C (in), 10 +IN C (in)
part D pins: 12 +IN D (in), 13 -IN D (in), 14 OUT D (out)

## OP481GS-REEL
designator U?
Quad Channel Operational Amplifier, 105 KHz BW, 28 mV/us SR, Industrial, 14-pin SOIC (R-14), Reel; Generic Part Number: OP481; Manufacturer: Analog Devices; PartNumber: OP481GS-REEL; Amplifiers Per Package: 4; Input Bias Current: 3nA; Input Offset Voltage: 100uV; Iq/Amp: 5uA; Small Signal Bandwidth: 105KHz; V Span Max: 12V; V Span Min: 2.7V; DatasheetVersion: Rev. D; PackageVersion: 060606-A; PackageReference: R-14; PackageDescription: 14-Pin Standard Small Outline Package, Body 8.65 x 3.9 mm, Pitch 1.27 mm; Supplier 1: Digi-Key; Supplier Part Number 1: OP481GS-REEL-ND; Packing: Reel; Slew Rate: 28mV/us; Mounting Technology: Surface Mount; Code_JEDEC: MS-012-AB; ComponentLink1Description: Manufacturer URL; ComponentLink1URL: http://www.analog.com/en/index.html; ComponentLink2Description: Datasheet; ComponentLink2URL: http://www.analog.com/static/imported-files/data_sheets/OP281_OP481.pdf; ComponentLink3Description: Package Specification; ComponentLink3URL: http://www.analog.com/static/imported-files/packages/PKG_PDF/SOIC_Narrow%20(R)/R_14.pdf
footprint ADI-R-14_N (SOIC, 14-Leads, Body 8.65x3.9mm, Pitch 1.27mm, IPC Medium Density)
footprint ADI-R-14_L (SOIC, 14-Leads, Body 8.65x3.9mm, Pitch 1.27mm, IPC High Density)
footprint ADI-R-14_M (SOIC, 14-Leads, Body 8.65x3.9mm, Pitch 1.27mm, IPC Low Density)
pins on every part: 4 +V (power), 11 -V (power)
part A pins: 1 OUT A (out), 2 -IN A (in), 3 +IN A (in)
part B pins: 5 +IN B (in), 6 -IN B (in), 7 OUT B (out)
part C pins: 8 OUT C (out), 9 -IN C (in), 10 +IN C (in)
part D pins: 12 +IN D (in), 13 -IN D (in), 14 OUT D (out)

## OP481GSZ
designator U?
Quad Channel Operational Amplifier, 105 KHz BW, 28 mV/us SR, Industrial, 14-pin SOIC (R-14), Tube; Generic Part Number: OP481; Manufacturer: Analog Devices; PartNumber: OP481GSZ; Amplifiers Per Package: 4; Input Bias Current: 3nA; Input Offset Voltage: 100uV; Iq/Amp: 5uA; Small Signal Bandwidth: 105KHz; V Span Max: 12V; V Span Min: 2.7V; DatasheetVersion: Rev. D; PackageVersion: 060606-A; PackageReference: R-14; PackageDescription: 14-Pin Standard Small Outline Package, Body 8.65 x 3.9 mm, Pitch 1.27 mm; Supplier 1: Digi-Key; Supplier Part Number 1: OP481GSZ-ND; Supplier 2: Farnell; Supplier Part Number 2: 1438999; Supplier 3: Newark; Supplier Part Number 3: 15P2307; Packing: Tube; Slew Rate: 28mV/us; Mounting Technology: Surface Mount; Code_JEDEC: MS-012-AB; ComponentLink1Description: Manufacturer URL; ComponentLink1URL: http://www.analog.com/en/index.html; ComponentLink2Description: Datasheet; ComponentLink2URL: http://www.analog.com/static/imported-files/data_sheets/OP281_OP481.pdf; ComponentLink3Description: Package Specification; ComponentLink3URL: http://www.analog.com/static/imported-files/packages/PKG_PDF/SOIC_Narrow%20(R)/R_14.pdf
footprint ADI-R-14_N (SOIC, 14-Leads, Body 8.65x3.9mm, Pitch 1.27mm, IPC Medium Density)
footprint ADI-R-14_L (SOIC, 14-Leads, Body 8.65x3.9mm, Pitch 1.27mm, IPC High Density)
footprint ADI-R-14_M (SOIC, 14-Leads, Body 8.65x3.9mm, Pitch 1.27mm, IPC Low Density)
pins on every part: 4 +V (power), 11 -V (power)
part A pins: 1 OUT A (out), 2 -IN A (in), 3 +IN A (in)
part B pins: 5 +IN B (in), 6 -IN B (in), 7 OUT B (out)
part C pins: 8 OUT C (out), 9 -IN C (in), 10 +IN C (in)
part D pins: 12 +IN D (in), 13 -IN D (in), 14 OUT D (out)

## OP481GSZ-REEL
designator U?
Quad Channel Operational Amplifier, 105 KHz BW, 28 mV/us SR, Industrial, 14-pin SOIC (R-14), Reel; Generic Part Number: OP481; Manufacturer: Analog Devices; PartNumber: OP481GSZ-REEL; Amplifiers Per Package: 4; Input Bias Current: 3nA; Input Offset Voltage: 100uV; Iq/Amp: 5uA; Small Signal Bandwidth: 105KHz; V Span Max: 12V; V Span Min: 2.7V; DatasheetVersion: Rev. D; PackageVersion: 060606-A; PackageReference: R-14; PackageDescription: 14-Pin Standard Small Outline Package, Body 8.65 x 3.9 mm, Pitch 1.27 mm; Supplier 1: Digi-Key; Supplier Part Number 1: OP481GSZ-REEL-ND; Packing: Reel; Slew Rate: 28mV/us; Mounting Technology: Surface Mount; Code_JEDEC: MS-012-AB; ComponentLink1Description: Manufacturer URL; ComponentLink1URL: http://www.analog.com/en/index.html; ComponentLink2Description: Datasheet; ComponentLink2URL: http://www.analog.com/static/imported-files/data_sheets/OP281_OP481.pdf; ComponentLink3Description: Package Specification; ComponentLink3URL: http://www.analog.com/static/imported-files/packages/PKG_PDF/SOIC_Narrow%20(R)/R_14.pdf
footprint ADI-R-14_N (SOIC, 14-Leads, Body 8.65x3.9mm, Pitch 1.27mm, IPC Medium Density)
footprint ADI-R-14_L (SOIC, 14-Leads, Body 8.65x3.9mm, Pitch 1.27mm, IPC High Density)
footprint ADI-R-14_M (SOIC, 14-Leads, Body 8.65x3.9mm, Pitch 1.27mm, IPC Low Density)
pins on every part: 4 +V (power), 11 -V (power)
part A pins: 1 OUT A (out), 2 -IN A (in), 3 +IN A (in)
part B pins: 5 +IN B (in), 6 -IN B (in), 7 OUT B (out)
part C pins: 8 OUT C (out), 9 -IN C (in), 10 +IN C (in)
part D pins: 12 +IN D (in), 13 -IN D (in), 14 OUT D (out)

## OP481GSZ-REEL7
designator U?
Quad Channel Operational Amplifier, 105 KHz BW, 28 mV/us SR, Industrial, 14-pin SOIC (R-14), Reel; Generic Part Number: OP481; Manufacturer: Analog Devices; PartNumber: OP481GSZ-REEL7; Amplifiers Per Package: 4; Input Bias Current: 3nA; Input Offset Voltage: 100uV; Iq/Amp: 5uA; Small Signal Bandwidth: 105KHz; V Span Max: 12V; V Span Min: 2.7V; DatasheetVersion: Rev. D; PackageVersion: 060606-A; PackageReference: R-14; PackageDescription: 14-Pin Standard Small Outline Package, Body 8.65 x 3.9 mm, Pitch 1.27 mm; Supplier 1: Digi-Key; Supplier Part Number 1: OP481GSZ-REEL7-ND; Packing: Reel; Slew Rate: 28mV/us; Mounting Technology: Surface Mount; Code_JEDEC: MS-012-AB; ComponentLink1Description: Manufacturer URL; ComponentLink1URL: http://www.analog.com/en/index.html; ComponentLink2Description: Datasheet; ComponentLink2URL: http://www.analog.com/static/imported-files/data_sheets/OP281_OP481.pdf; ComponentLink3Description: Package Specification; ComponentLink3URL: http://www.analog.com/static/imported-files/packages/PKG_PDF/SOIC_Narrow%20(R)/R_14.pdf
footprint ADI-R-14_N (SOIC, 14-Leads, Body 8.65x3.9mm, Pitch 1.27mm, IPC Medium Density)
footprint ADI-R-14_L (SOIC, 14-Leads, Body 8.65x3.9mm, Pitch 1.27mm, IPC High Density)
footprint ADI-R-14_M (SOIC, 14-Leads, Body 8.65x3.9mm, Pitch 1.27mm, IPC Low Density)
pins on every part: 4 +V (power), 11 -V (power)
part A pins: 1 OUT A (out), 2 -IN A (in), 3 +IN A (in)
part B pins: 5 +IN B (in), 6 -IN B (in), 7 OUT B (out)
part C pins: 8 OUT C (out), 9 -IN C (in), 10 +IN C (in)
part D pins: 12 +IN D (in), 13 -IN D (in), 14 OUT D (out)

## OP482ACBZ-R7
designator U?
Quad Channel Wide Bandwidth Operational Amplifier, 4 MHz BW, 9 V/us SR, Industrial, 14-pin BGA (CB-14-2), Reel; Generic Part Number: OP482; Manufacturer: Analog Devices; PartNumber: OP482ACBZ-R7; Amplifiers Per Package: 4; Input Bias Current: 3pA; Input Offset Voltage: 200uV; Iq/Amp: 250uA; Slew Rate: 9V/us; Small Signal Bandwidth: 4MHz; V Span Max: 36V; V Span Min: 9V; DatasheetVersion: 081709-B; PackageVersion: 081709-B; PackageReference: CB-14-2; PackageDescription: 14-Ball Wafer Level Chip Scale Package, Body 2.123 x 1.128 mm, Pitch 0.4 mm; Supplier 1: Digi-Key; Supplier Part Number 1: OP482ACBZ-R7TR-ND; Supplier 2: Digi-Key; Supplier Part Number 2: OP482ACBZ-R7CT-ND; Supplier 3: Digi-Key; Supplier Part Number 3: OP482ACBZ-R7DKR-ND; Packing: Reel; Mounting Technology: Surface Mount; ComponentLink1Description: Manufacturer URL; ComponentLink1URL: http://www.analog.com/en/index.html; ComponentLink2Description: Datasheet; ComponentLink2URL: http://www.analog.com/static/imported-files/data_sheets/OP282_OP482.pdf; ComponentLink3Description: Package Specification; ComponentLink3URL: http://www.analog.com/static/imported-files/data_sheets/OP282_OP482.pdf
footprint ADI-CB-14-2 (BGA, 14-Balls, Body 2.123x1.128mm, Pitch 0.4mm)
pins on every part: E1 -V (power), E3 +V (power)
part A pins: A3 OUT A (out), C3 -IN A (in), D2 +IN A (in)
part B pins: F2 +IN B (in), G3 -IN B (in), J3 OUT B (out)
part C pins: G1 +IN C (in), H2 -IN C (in), J1 OUT C (out)
part D pins: A1 OUT D (out), B2 -IN D (in), C1 +IN D (in)

## OP482ACBZ-RL
designator U?
Quad Channel Wide Bandwidth Operational Amplifier, 4 MHz BW, 9 V/us SR, Industrial, 14-pin BGA (CB-14-2), Reel; Generic Part Number: OP482; Manufacturer: Analog Devices; PartNumber: OP482ACBZ-RL; Amplifiers Per Package: 4; Input Bias Current: 3pA; Input Offset Voltage: 200uV; Iq/Amp: 250uA; Slew Rate: 9V/us; Small Signal Bandwidth: 4MHz; V Span Max: 36V; V Span Min: 9V; DatasheetVersion: 081709-B; PackageVersion: 081709-B; PackageReference: CB-14-2; PackageDescription: 14-Ball Wafer Level Chip Scale Package, Body 2.123 x 1.128 mm, Pitch 0.4 mm; Supplier 1: Digi-Key; Supplier Part Number 1: OP482ACBZ-RL-ND; Packing: Reel; Mounting Technology: Surface Mount; ComponentLink1Description: Manufacturer URL; ComponentLink1URL: http://www.analog.com/en/index.html; ComponentLink2Description: Datasheet; ComponentLink2URL: http://www.analog.com/static/imported-files/data_sheets/OP282_OP482.pdf; ComponentLink3Description: Package Specification; ComponentLink3URL: http://www.analog.com/static/imported-files/data_sheets/OP282_OP482.pdf
footprint ADI-CB-14-2 (BGA, 14-Balls, Body 2.123x1.128mm, Pitch 0.4mm)
pins on every part: E1 -V (power), E3 +V (power)
part A pins: A3 OUT A (out), C3 -IN A (in), D2 +IN A (in)
part B pins: F2 +IN B (in), G3 -IN B (in), J3 OUT B (out)
part C pins: G1 +IN C (in), H2 -IN C (in), J1 OUT C (out)
part D pins: A1 OUT D (out), B2 -IN D (in), C1 +IN D (in)